# Altium schematic symbol library OpAmps.SchLib: 1 symbol
Pins are listed as number, name and electrical type; pins without a type are passive.

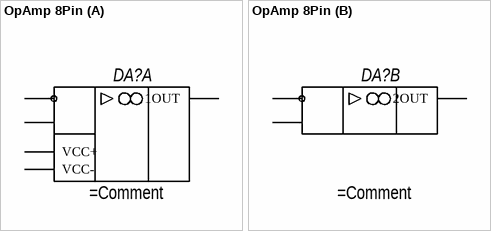
[diagram p0: symbol OpAmp 8Pin]

## OpAmp 8Pin
designator DA?
part A pins: 1 1OUT, 2, 3, 4 VCC-, 8 VCC+
part B pins: 5, 6, 7 2OUT